# Altium integrated library Newport Communication Transceiver.IntLib: 14 symbols
Pins are listed as number, name and electrical type; pins without a type are passive.

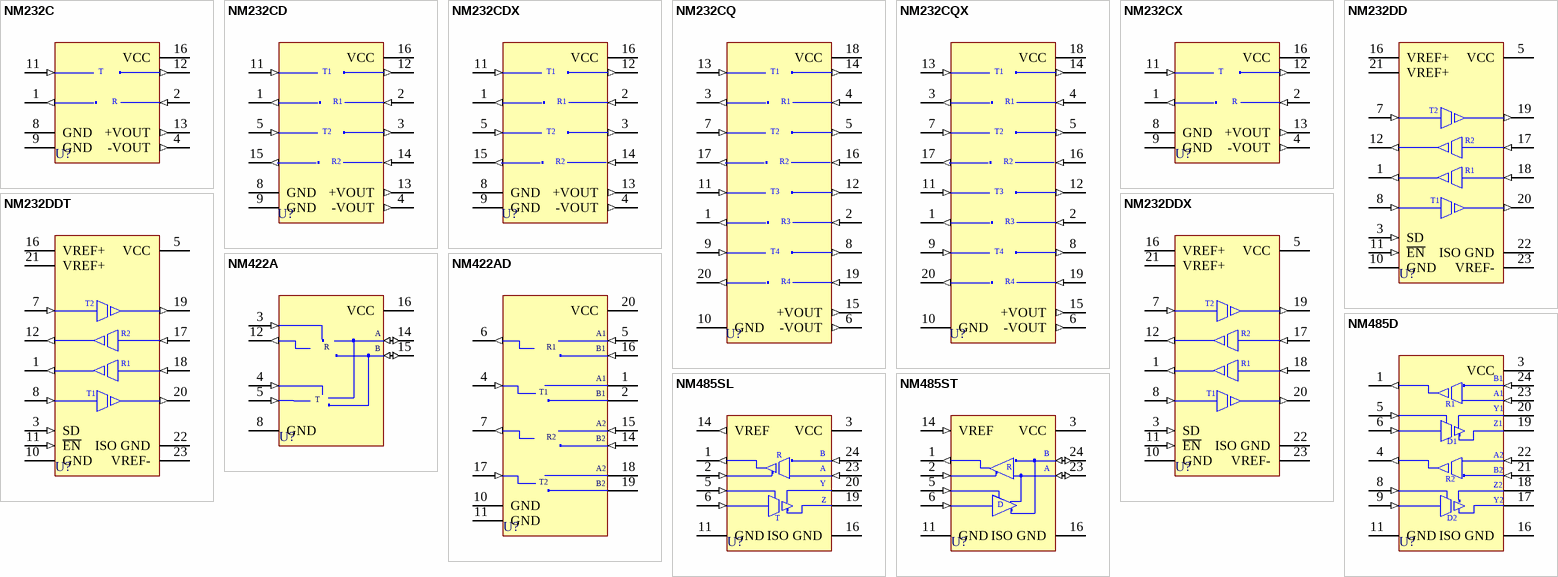
[diagram p0: symbols NM232C to NM485ST]

## NM232C
designator U?
EIA RS-232-C  Transmitter and Receiver; Note: Pins 3, 5, 6, 7,10,14 and 15 are not present.; Published: 8-Jun-2000; LatestRevisionDate: 17-Jul-2002; LatestRevisionNote: Re-released for DXP Platform.; DatasheetVersion: Oct-1996; PackageVersion: 1996; PackageReference: NPDIP16; Publisher: Altium Limited; PackageDescription: DIP; 16 Round Pins (7 Absent); Row Space 12.7 mm; Pitch 2.54 mm; ComponentLink1Description: Manufacturer Link; ComponentLink1URL: http://www.dc-dc.com/
footprint NPDIP16 (DIP; 16 Round Pins (7 Absent); Row Space 12.7 mm; Pitch 2.54 mm)
pins: 1 ROUT (out), 2 RIN (in), 4 -VOUT (out), 8 GND (power), 9 GND (power), 11 TIN (in), 12 TOUT (out), 13 +VOUT (out), 16 VCC (power)
text: T; R

## NM232CD
designator U?
Dual EIA RS-232-C Transmitter and Receiver; Note: Pins 6,7,10 are not present; Published: 8-Jun-2000; LatestRevisionDate: 17-Jul-2002; LatestRevisionNote: Re-released for DXP Platform.; DatasheetVersion: Oct-1996; PackageVersion: 1996; PackageReference: NPDIP16B; Publisher: Altium Limited; PackageDescription: DIP; 16 Round Pins (3 Absent); Row Space 12.7 mm; Pitch 2.54 mm; ComponentLink1Description: Manufacturer Link; ComponentLink1URL: http://www.dc-dc.com/
footprint NPDIP16B (DIP; 16 Round Pins (3 Absent); Row Space 12.7 mm; Pitch 2.54 mm)
pins: 1 R1OUT (out), 2 R1IN (in), 3 T2OUT (out), 4 -VOUT (out), 5 T2IN (in), 8 GND (power), 9 GND (power), 11 T1IN (in), 12 T1OUT (out), 13 +VOUT (out), 14 R2IN (in), 15 R2OUT (out), 16 VCC (power)
text: T1; R1; T2; R2

## NM232CDX
designator U?
Dual EIA RS-232-C Transmitter and Receiver with Extended Temperature Range; Note: Pins 6,7,10 are not present; Published: 8-Jun-2000; LatestRevisionDate: 17-Jul-2002; LatestRevisionNote: Re-released for DXP Platform.; DatasheetVersion: Oct-1996; PackageVersion: 1996; PackageReference: NPDIP16B; Publisher: Altium Limited; PackageDescription: DIP; 16 Round Pins (3 Absent); Row Space 12.7 mm; Pitch 2.54 mm; ComponentLink1Description: Manufacturer Link; ComponentLink1URL: http://www.dc-dc.com/
footprint NPDIP16B (DIP; 16 Round Pins (3 Absent); Row Space 12.7 mm; Pitch 2.54 mm)
pins: 1 R1OUT (out), 2 R1IN (in), 3 T2OUT (out), 4 -VOUT (out), 5 T2IN (in), 8 GND (power), 9 GND (power), 11 T1IN (in), 12 T1OUT (out), 13 +VOUT (out), 14 R2IN (in), 15 R2OUT (out), 16 VCC (power)
text: T1; R1; T2; R2

## NM232CQ
designator U?
Quad EIA RS-232-C Transmitter and Receiver; Published: 8-Jun-2000; LatestRevisionDate: 17-Jul-2002; LatestRevisionNote: Re-released for DXP Platform.; DatasheetVersion: Oct-1996; PackageVersion: 1996; PackageReference: NPDIP20; Publisher: Altium Limited; PackageDescription: DIP; 20 Round Pins; Row Space 12.7 mm; Pitch 2.54 mm; ComponentLink1Description: Manufacturer Link; ComponentLink1URL: http://www.dc-dc.com/
footprint NPDIP20 (DIP; 20 Round Pins; Row Space 12.7 mm; Pitch 2.54 mm)
pins: 1 R3OUT (out), 2 R3IN (in), 3 R1OUT (out), 4 R1IN (in), 5 T2OUT (out), 6 -VOUT (out), 7 T2IN (in), 8 T4OUT (out), 9 T4IN (in), 10 GND (power), 11 T3IN (in), 12 T3OUT (out), 13 T1IN (in), 14 T1OUT (out), 15 +VOUT (out), 16 R2IN (in), 17 R2OUT (out), 18 VCC (power), 19 R4IN (in), 20 R4OUT (out)
text: T1; R1; T2; R2; T3; R3; T4; R4

## NM232CQX
designator U?
Quad EIA RS-232-C Transmitter and Receiver with Extended Temperature Range; Published: 8-Jun-2000; LatestRevisionDate: 17-Jul-2002; LatestRevisionNote: Re-released for DXP Platform.; DatasheetVersion: Oct-1996; PackageVersion: 1996; PackageReference: NPDIP20; Publisher: Altium Limited; PackageDescription: DIP; 20 Round Pins; Row Space 12.7 mm; Pitch 2.54 mm; ComponentLink1Description: Manufacturer Link; ComponentLink1URL: http://www.dc-dc.com/
footprint NPDIP20 (DIP; 20 Round Pins; Row Space 12.7 mm; Pitch 2.54 mm)
pins: 1 R3OUT (out), 2 R3IN (in), 3 R1OUT (out), 4 R1IN (in), 5 T2OUT (out), 6 -VOUT (out), 7 T2IN (in), 8 T4OUT (out), 9 T4IN (in), 10 GND (power), 11 T3IN (in), 12 T3OUT (out), 13 T1IN (in), 14 T1OUT (out), 15 +VOUT (out), 16 R2IN (in), 17 R2OUT (out), 18 VCC (power), 19 R4IN (in), 20 R4OUT (out)
text: T1; R1; T2; R2; T3; R3; T4; R4

## NM232CX
designator U?
EIA RS-232-C Transmitter and Receiver with Extended Temperature Range; Note: Pins 3, 5, 6, 7,10,14 and 15 are not present.; Published: 8-Jun-2000; LatestRevisionDate: 17-Jul-2002; LatestRevisionNote: Re-released for DXP Platform.; DatasheetVersion: Oct-1996; PackageVersion: 1996; PackageReference: NPDIP16; Publisher: Altium Limited; PackageDescription: DIP; 16 Round Pins (7 Absent); Row Space 12.7 mm; Pitch 2.54 mm; ComponentLink1Description: Manufacturer Link; ComponentLink1URL: http://www.dc-dc.com/
footprint NPDIP16 (DIP; 16 Round Pins (7 Absent); Row Space 12.7 mm; Pitch 2.54 mm)
pins: 1 ROUT (out), 2 RIN (in), 4 -VOUT (out), 8 GND (power), 9 GND (power), 11 TIN (in), 12 TOUT (out), 13 +VOUT (out), 16 VCC (power)
text: T; R

## NM232DD
designator U?
Isolated Dual EIA-232-D Transmitter and Receiver; Note: Pin(s) 2, 4, 6, 9, 13-15 and 24 are No Internal Connection (NC) pins and are not drawn.; Published: 8-Jun-2000; LatestRevisionDate: 17-Jul-2002; LatestRevisionNote: Re-released for DXP Platform.; DatasheetVersion: Oct-1996; PackageReference: NPDIL24B; Publisher: Altium Limited; PackageDescription: DIP; 24 Leads; Row Spacing 15.24 mm; Pitch 2.54 mm; Code_JEDEC: MS-011-AA; ComponentLink1Description: Manufacturer Link; ComponentLink1URL: http://www.dc-dc.com/
footprint NPDIL24B (DIP; 24 Leads; Row Spacing 15.24 mm; Pitch 2.54 mm)
pins: 1 R1OUT (out), 3 SD (in), 5 VCC (power), 7 T2IN (in), 8 T1IN (in), 10 GND (power), 11 ~{EN} (in), 12 R2OUT (out), 16 VREF+ (power), 17 R2IN (in), 18 R1IN (in), 19 T2OUT (out), 20 T1OUT (out), 21 VREF+ (power), 22 ISO GND (power), 23 VREF- (power)
text: T2; R2; R1; T1

## NM232DDT
designator U?
Isolated Dual EIA-232-D Transmitter and Receiver (19k Baud Guaranteed Version); Note: Pin(s) 2, 4, 6, 9, 13-15 and 24 are No Internal Connection (NC) pins and are not drawn.; Published: 8-Jun-2000; LatestRevisionDate: 17-Jul-2002; LatestRevisionNote: Re-released for DXP Platform.; DatasheetVersion: Oct-1996; PackageReference: NPDIL24B; Publisher: Altium Limited; PackageDescription: DIP; 24 Leads; Row Spacing 15.24 mm; Pitch 2.54 mm; Code_JEDEC: MS-011-AA; ComponentLink1Description: Manufacturer Link; ComponentLink1URL: http://www.dc-dc.com/
footprint NPDIL24B (DIP; 24 Leads; Row Spacing 15.24 mm; Pitch 2.54 mm)
pins: 1 R1OUT (out), 3 SD (in), 5 VCC (power), 7 T2IN (in), 8 T1IN (in), 10 GND (power), 11 ~{EN} (in), 12 R2OUT (out), 16 VREF+ (power), 17 R2IN (in), 18 R1IN (in), 19 T2OUT (out), 20 T1OUT (out), 21 VREF+ (power), 22 ISO GND (power), 23 VREF- (power)
text: T2; R2; R1; T1

## NM232DDX
designator U?
Isolated Dual EIA-232-D Transmitter and Receiver with Extended Temperature Range; Note: Pin(s) 2, 4, 6, 9, 13-15 and 24 are No Internal Connection (NC) pins and are not drawn.; Published: 8-Jun-2000; LatestRevisionDate: 17-Jul-2002; LatestRevisionNote: Re-released for DXP Platform.; DatasheetVersion: Oct-1996; PackageReference: NPDIL24B; Publisher: Altium Limited; PackageDescription: DIP; 24 Leads; Row Spacing 15.24 mm; Pitch 2.54 mm; Code_JEDEC: MS-011-AA; ComponentLink1Description: Manufacturer Link; ComponentLink1URL: http://www.dc-dc.com/
footprint NPDIL24B (DIP; 24 Leads; Row Spacing 15.24 mm; Pitch 2.54 mm)
pins: 1 R1OUT (out), 3 SD (in), 5 VCC (power), 7 T2IN (in), 8 T1IN (in), 10 GND (power), 11 ~{EN} (in), 12 R2OUT (out), 16 VREF+ (power), 17 R2IN (in), 18 R1IN (in), 19 T2OUT (out), 20 T1OUT (out), 21 VREF+ (power), 22 ISO GND (power), 23 VREF- (power)
text: T2; R2; R1; T1

## NM422A
designator U?
EIA RS-232-C to EIA RS-422-A Transceiver; Note: Pins 1, 2, 6, 7, 9-11 and 13 are not present.; Published: 8-Jun-2000; LatestRevisionDate: 17-Jul-2002; LatestRevisionNote: Re-released for DXP Platform.; DatasheetVersion: Oct-1996; PackageVersion: 1996; PackageReference: NPDIP16C; Publisher: Altium Limited; PackageDescription: DIP; 16 Round Pins (8 Absent); Row Space 12.7 mm; Pitch 2.54 mm; ComponentLink1Description: Manufacturer Link; ComponentLink1URL: http://www.dc-dc.com/
footprint NPDIP16C (DIP; 16 Round Pins (8 Absent); Row Space 12.7 mm; Pitch 2.54 mm)
pins: 3 ~{RE} (in), 4 DE (in), 5 RXIN (in), 8 GND (power), 12 TXOUT (out), 14 A (io), 15 B (io), 16 VCC (power)
text: R; T

## NM422AD
designator U?
Dual EIA RS-232-C to EIA RS-422-A Tranceiver; Note: Pins 3, 8, 9, 12 and 13 are not present.; Published: 8-Jun-2000; LatestRevisionDate: 17-Jul-2002; LatestRevisionNote: Re-released for DXP Platform.; DatasheetVersion: Oct-1996; PackageVersion: 1996; PackageReference: NPDIP20B; Publisher: Altium Limited; PackageDescription: DIP; 20 Round Pins (5 Absent); Row Space 12.7 mm; Pitch 2.54 mm; ComponentLink1Description: Manufacturer Link; ComponentLink1URL: http://www.dc-dc.com/
footprint NPDIP20B (DIP; 20 Round Pins (5 Absent); Row Space 12.7 mm; Pitch 2.54 mm)
pins: 1 A1TX (hiz), 2 B1TX (hiz), 4 RXIN1 (in), 5 A1 RX (in), 6 TXOUT1 (out), 7 TXOUT2 (out), 10 GND (power), 11 GND (power), 14 B2RX (in), 15 A2 RX (in), 16 B1RX (in), 17 RXIN2 (in), 18 A2TX (hiz), 19 B2TX (hiz), 20 VCC (power)
text: A1; R1; B1; T1; A2; R2; B2; T2

## NM485D
designator U?
Isolated Dual EIA-485 Driver and Receiver; Note: Pins 2, 7, 10 and 12-15 are No Internal Connection (NC) pins and are not drawn.; Published: 8-Jun-2000; LatestRevisionDate: 17-Jul-2002; LatestRevisionNote: Re-released for DXP Platform.; DatasheetVersion: Oct-1996; PackageReference: NPDIL24B; Publisher: Altium Limited; PackageDescription: DIP; 24 Leads; Row Spacing 15.24 mm; Pitch 2.54 mm; Code_JEDEC: MS-011-AA; ComponentLink1Description: Manufacturer Link; ComponentLink1URL: http://www.dc-dc.com/
footprint NPDIL24B (DIP; 24 Leads; Row Spacing 15.24 mm; Pitch 2.54 mm)
pins: 1 R1OUT (out), 3 VCC (power), 4 R2 OUT (out), 5 D1 EN (in), 6 D1 IN (in), 8 D2 EN (in), 9 D2 IN (in), 11 GND (power), 16 ISO GND (power), 17 D2Y (hiz), 18 D2Z (hiz), 19 D1Z (hiz), 20 D1Y (hiz), 21 R2B (in), 22 R2A (in), 23 R1A (in), 24 R1B (in)
text: B1; A1; R1; Y1; Z1; D1; A2; B2; R2; Z2; Y2; D2

## NM485SL
designator U?
Low Power Isolated EIA-485 Driver and Receiver; Note: Pins 4, 7-10, 12, 13, 15, 17, 18, 21 and 22 are No Internal Connection (NC) pins and are not drawn.; Published: 8-Jun-2000; LatestRevisionDate: 17-Jul-2002; LatestRevisionNote: Re-released for DXP Platform.; DatasheetVersion: Oct-1996; PackageReference: NPDIL24B; Publisher: Altium Limited; PackageDescription: DIP; 24 Leads; Row Spacing 15.24 mm; Pitch 2.54 mm; Code_JEDEC: MS-011-AA; ComponentLink1Description: Manufacturer Link; ComponentLink1URL: http://www.dc-dc.com/
footprint NPDIL24B (DIP; 24 Leads; Row Spacing 15.24 mm; Pitch 2.54 mm)
pins: 1 ROUT (out), 2 ~{REN} (in), 3 VCC (power), 5 DEN (in), 6 DIN (in), 11 GND (power), 14 VREF (out), 16 ISO GND (power), 19 DZ (hiz), 20 DY (hiz), 23 RA (in), 24 RB (in)
text: R; B; A; Y; Z; T

## NM485ST
designator U?
Low Power Isolated EIA-485 Transceiver; Note: Pins 4, 7-10, 12, 13, 15 and 17-22 are No Internal Connection (NC) pins and are not drawn.; Published: 8-Jun-2000; LatestRevisionDate: 17-Jul-2002; LatestRevisionNote: Re-released for DXP Platform.; DatasheetVersion: Oct-1996; PackageReference: NPDIL24B; Publisher: Altium Limited; PackageDescription: DIP; 24 Leads; Row Spacing 15.24 mm; Pitch 2.54 mm; Code_JEDEC: MS-011-AA; ComponentLink1Description: Manufacturer Link; ComponentLink1URL: http://www.dc-dc.com/
footprint NPDIL24B (DIP; 24 Leads; Row Spacing 15.24 mm; Pitch 2.54 mm)
pins: 1 ROUT (out), 2 ~{R EN} (in), 3 VCC (power), 5 D EN (in), 6 DIN (in), 11 GND (power), 14 VREF (in), 16 ISO GND (power), 23 A (io), 24 B (io)
text: R; D